# Altium schematic symbol library NCEP40T20GU.Schlib: 1 symbol
Pins are listed as number, name and electrical type; pins without a type are passive.

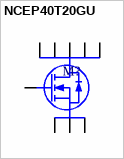
[diagram p0: symbol NCEP40T20GU]

## NCEP40T20GU
designator M?
40V 200A N-Channel
pins: 1 S, 2 S, 3 S, 4 G, 5 D, 6 D, 7 D, 8 D, 9 D